# Altium integrated library LEDYEL1206.IntLib: 1 symbol
Pins are listed as number, name and electrical type; pins without a type are passive.

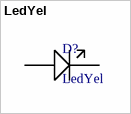
[diagram p0: symbol LedYel]

## LedYel
designator D?
footprint 1206
pins: P1 +, P2 -